# Altium schematic symbol library Expansion_Card.SchLib: 7 symbols
Pins are listed as number, name and electrical type; pins without a type are passive.

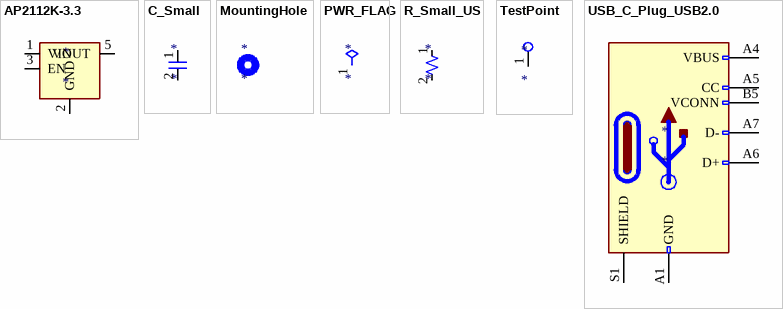
[diagram p0: symbols AP2112K-3.3 to USB_C_Plug_USB2.0]

## AP2112K-3.3
designator *
pins: 1 VIN, 2 GND, 3 EN, 4 NC hidden, 5 VOUT

## C_Small
designator *
pins: 1, 2

## MountingHole
designator *

## PWR_FLAG
designator *  (graphical)
pins: 1 pwr

## R_Small_US
designator *
pins: 1, 2

## TestPoint
designator *
pins: 1

## USB_C_Plug_USB2.0
designator *
pins: A1 GND, A4 VBUS, A5 CC, A6 D+, A7 D-, A9 VBUS hidden, A12 GND hidden, B1 GND hidden, B4 VBUS hidden, B5 VCONN, B9 VBUS hidden, B12 GND hidden, S1 SHIELD